# Altium footprint library HBHRB210VGSMT.PcbLib: 1 footprints
Each footprint in its own frame and in the unit in brackets; x right, y up, seen from the top. Pads: shape width x height; smd on the part's side, far side on the other; paste and mask are expansions set on the pad; w line width, h text height; cw(c..) or ccw(c..) is an arc to the next point about the centre after c.
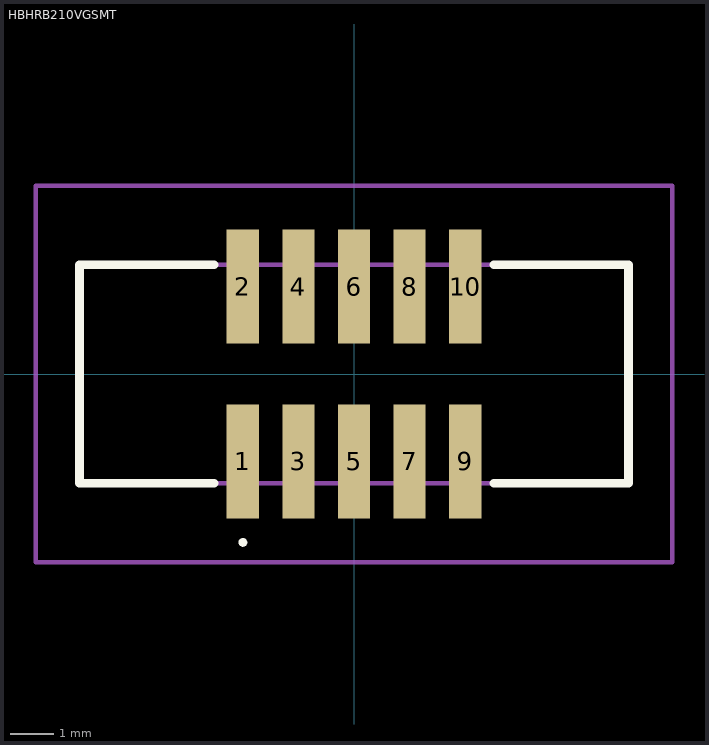
[diagram p0: the footprint, top view; thin cyan lines are the x and y axes]

## HBHRB210VGSMT [mm]
pads (10):
  rect 0.74x2.6 smd: 1(-2.54,-2) 2(-2.54,2) 3(-1.27,-2) 4(-1.27,2) 5(0,-2) 6(0,2) 7(1.27,-2) 8(1.27,2) 9(2.54,-2) 10(2.54,2)
Top Overlay:
  lines w0.1: -2.54,-3.9 cw(c-2.54,-3.85) -2.54,-3.8 ; -2.54,-3.9 -2.54,-3.9 ; -2.54,-3.9 ccw(c-2.54,-3.85) -2.54,-3.8 ; -2.54,-3.8 -2.54,-3.8
  lines w0.2: -3.2,-2.5 -6.275,-2.5 -6.275,2.5 -3.2,2.5 ; 3.2,-2.5 6.275,-2.5 6.275,2.5 3.2,2.5
Mechanical 15:
  lines w0.1: -6.275,-2.5 6.275,-2.5 6.275,2.5 -6.275,2.5 -6.275,-2.5
Mechanical 20:
  lines w0.1: -7.275,-4.3 7.275,-4.3 7.275,4.3 -7.275,4.3 -7.275,-4.3